# EAGLE library part LIS3DH (library SparkFun-Sensors_Smight)
ST Microelectronics LIS3DH 3-Axis ±2/4/8/16g SPI/I2C Accelerometer The LIS3DH is a three axis MEMS linear accelerometer in the "nano" family. It has a digital I2C/SPI serial interface which makes it ideal for using in embedded applications. The device also features ultra low-power operational modes that allow advanced power saving and smart sleep to wake-up functions, built in detections with interrupts, and auxiliary ADC inputs Datasheet-XXXX <http://www.sparkfun.com/datasheets/Sensors/Accelerometer/LIS3DH.pdf> SparkFun Products SparkFun Triple Axis Accelerometer Breakout - LIS3DH <https://www.sparkfun.com/products/10345> (SEN-XXXXX) Triple Axis Accelerometer - LIS3DH <https://www.sparkfun.com/products/9755> (SEN-XXXXX)
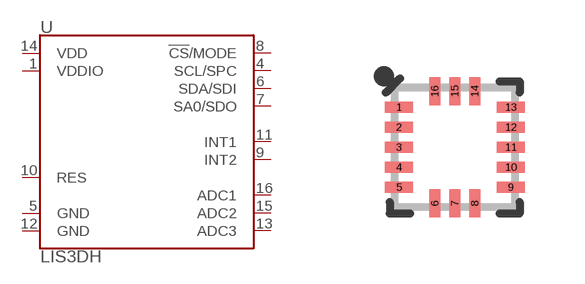
[diagram p27: symbol with the pads of LGA-16-3X3; footprint LGA-16-3X3]

Designator prefix U

## LIS3DH (PROD_ID: IC-13419; SF_ID: N/A)  [LGA-16-3X3]
1  VDDIO
4  SCL/SPC
5  GND
6  SDA/SDI
7  SA0/SDO
8  !CS!/MODE
9  INT2
10  RES
11  INT1
12  GND
13  ADC3
14  VDD
15  ADC2
16  ADC1

## Footprint LGA-16-3X3 (pad centres in mm)
16-Pin Land Grid Array (LGA) (3 x 3 mm) Datasheet <https://www.sparkfun.com/datasheets/Sensors/Accelerometer/LIS331HH.pdf> Specifications: Pin Count: 16 Area: 3.0 x 3.0 x 1.0 mm Pitch: 0.5 mm Devices Using: LIS331 LIS3DH
smd 0.7 x 0.28: 1 -1.4,1; 2 -1.4,0.5; 3 -1.4,0; 4 -1.4,-0.5; 5 -1.4,-1; 9 1.4,-1; 10 1.4,-0.5; 11 1.4,0; 12 1.4,0.5; 13 1.4,1
smd 0.28 x 0.7: 6 -0.5,-1.4; 7 0,-1.4; 8 0.5,-1.4; 14 0.5,1.4; 15 0,1.4; 16 -0.5,1.4